# Altium schematic symbol library SCH - ARM CORTEX - NXP LPC11U2X TFBGA48.SCHLIB: 1 symbol
Pins are listed as number, name and electrical type; pins without a type are passive.

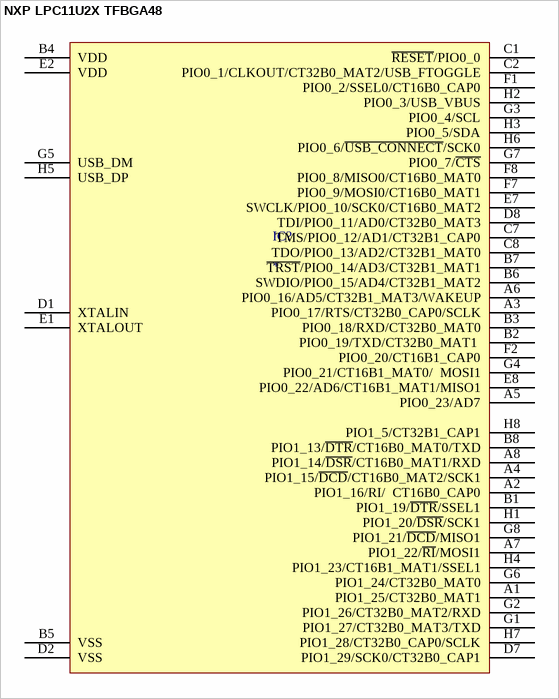
[diagram p0: symbol NXP LPC11U2X TFBGA48]

## NXP LPC11U2X TFBGA48
designator IC?
pins: A1 PIO1_25/CT32B0_MAT1, A2 PIO1_16/RI/  CT16B0_CAP0, A3 PIO0_17/RTS/CT32B0_CAP0/SCLK, A4 PIO1_15/~{DCD}/CT16B0_MAT2/SCK1, A5 PIO0_23/AD7, A6 PIO0_16/AD5/CT32B1_MAT3/WAKEUP, A7 PIO1_22/~{RI}/MOSI1, A8 PIO1_14/~{DSR}/CT16B0_MAT1/RXD, B1 PIO1_19/~{DTR}/SSEL1, B2 PIO0_19/TXD/CT32B0_MAT1 , B3 PIO0_18/RXD/CT32B0_MAT0, B4 VDD, B5 VSS, B6 SWDIO/PIO0_15/AD4/CT32B1_MAT2, B7 ~{TRST}/PIO0_14/AD3/CT32B1_MAT1, B8 PIO1_13/~{DTR}/CT16B0_MAT0/TXD, C1 ~{RESET}/PIO0_0, C2 PIO0_1/CLKOUT/CT32B0_MAT2/USB_FTOGGLE, C7 TMS/PIO0_12/AD1/CT32B1_CAP0, C8 TDO/PIO0_13/AD2/CT32B1_MAT0, D1 XTALIN, D2 VSS, D7 PIO1_29/SCK0/CT32B0_CAP1, D8 TDI/PIO0_11/AD0/CT32B0_MAT3, E1 XTALOUT, E2 VDD, E7 SWCLK/PIO0_10/SCK0/CT16B0_MAT2, E8 PIO0_22/AD6/CT16B1_MAT1/MISO1, F1 PIO0_2/SSEL0/CT16B0_CAP0, F2 PIO0_20/CT16B1_CAP0, F7 PIO0_9/MOSI0/CT16B0_MAT1, F8 PIO0_8/MISO0/CT16B0_MAT0, G1 PIO1_27/CT32B0_MAT3/TXD, G2 PIO1_26/CT32B0_MAT2/RXD, G3 PIO0_4/SCL, G4 PIO0_21/CT16B1_MAT0/  MOSI1, G5 USB_DM, G6 PIO1_24/CT32B0_MAT0, G7 PIO0_7/~{CTS}, G8 PIO1_21/~{DCD}/MISO1, H1 PIO1_20/~{DSR}/SCK1, H2 PIO0_3/USB_VBUS, H3 PIO0_5/SDA, H4 PIO1_23/CT16B1_MAT1/SSEL1, H5 USB_DP, H6 PIO0_6/~{USB_CONNECT}/SCK0, H7 PIO1_28/CT32B0_CAP0/SCLK, H8 PIO1_5/CT32B1_CAP1